# Altium schematic symbol library eSwitch.SchLib: 1 symbol
Pins are listed as number, name and electrical type; pins without a type are passive.

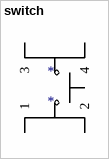
[diagram p0: symbol switch]

## switch
designator *
LL3301NF065QG
footprint LL3301NF065QG
footprint 95C06
pins: 1, 2, 3, 4